# EAGLE library part IT430 (library X893)
http://www.fastraxgps.com/showfile.cfm?guid=ee88ffad-2015-4e35-9559-28e4598add6b
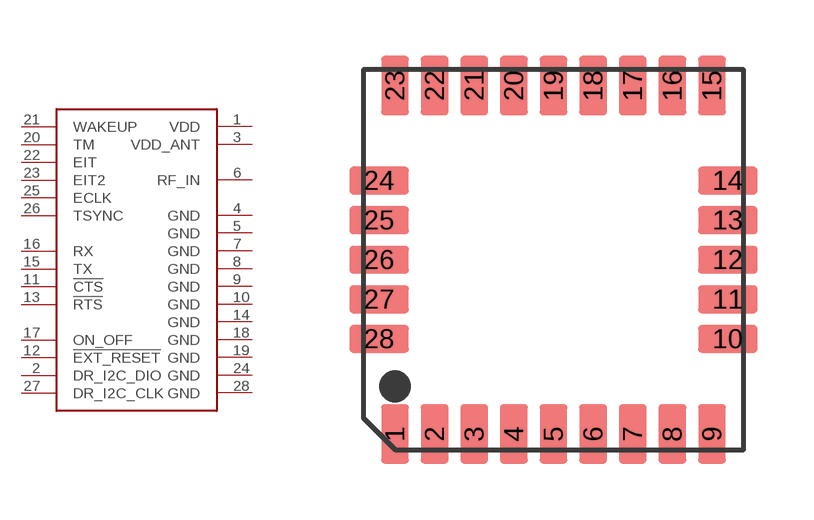
[diagram p171: symbol with the pads of IT430; footprint IT430]

Designator prefix U

## IT430  [IT430]
1  VDD
2  DR_I2C_DIO
3  VDD_ANT
4  GND
5  GND
6  RF_IN
7  GND
8  GND
9  GND
10  GND
11  !CTS
12  !EXT_RESET
13  !RTS
14  GND
15  TX
16  RX
17  ON_OFF
18  GND
19  GND
20  TM
21  WAKEUP
22  EIT
23  EIT2
24  GND
25  ECLK
26  TSYNC
27  DR_I2C_CLK
28  GND

## Footprint IT430 (pad centres in mm)
smd 0.7 x 1.5: 1 -4,-4.4; 2 -3,-4.4; 3 -2,-4.4; 4 -1,-4.4; 5 0,-4.4; 6 1,-4.4; 7 2,-4.4; 8 3,-4.4; 9 4,-4.4; 15 4,4.4; 16 3,4.4; 17 2,4.4; 18 1,4.4; 19 0,4.4; 20 -1,4.4; 21 -2,4.4; 22 -3,4.4; 23 -4,4.4
smd 1.5 x 0.7: 10 4.4,-2; 11 4.4,-1; 12 4.4,0; 13 4.4,1; 14 4.4,2; 24 -4.4,2; 25 -4.4,1; 26 -4.4,0; 27 -4.4,-1; 28 -4.4,-2